# EAGLE library part AT1846S (library Auctus)
The RDA1846 is a highly integrated single-chip transceiver for Walkie Talkie applications.
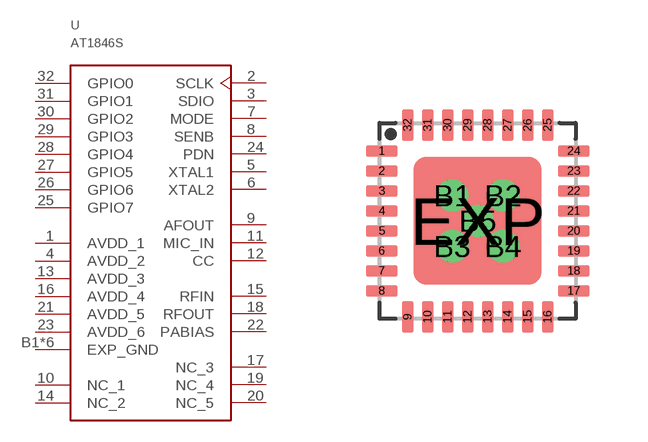
[diagram p0: symbol with the pads of QFN32; footprint QFN32]

Designator prefix U

## AT1846S  [QFN32]
1  AVDD_1  pwr
2  SCLK  in
3  SDIO
4  AVDD_2  pwr
5  XTAL1
6  XTAL2
7  MODE
8  SENB
9  AFOUT  out
10  NC_1  nc
11  MIC_IN  in
12  CC
13  AVDD_3  pwr
14  NC_2  nc
15  RFIN  in
16  AVDD_4  pwr
17  NC_3  nc
18  RFOUT  out
19  NC_4
20  NC_5
21  AVDD_5  pwr
22  PABIAS
23  AVDD_6  pwr
24  PDN
25  GPIO7
26  GPIO6
27  GPIO5
28  GPIO4
29  GPIO3
30  GPIO2
31  GPIO1
32  GPIO0
B1  EXP_GND
B2  EXP_GND
B3  EXP_GND
B4  EXP_GND
B5  EXP_GND
EXP  EXP_GND

## Footprint QFN32 (pad centres in mm)
QFN 32 5 x 5 mm Source: http://datasheets.maxim-ic.com/en/ds/MAX7042.pdf
smd 0.8 x 0.3: 1 -2.4,1.75; 2 -2.4,1.25; 3 -2.4,0.75; 4 -2.4,0.25; 5 -2.4,-0.25; 6 -2.4,-0.75; 7 -2.4,-1.25; 8 -2.4,-1.75; 17 2.4,-1.75; 18 2.4,-1.25; 19 2.4,-0.75; 20 2.4,-0.25; 21 2.4,0.25; 22 2.4,0.75; 23 2.4,1.25; 24 2.4,1.75
smd 0.3 x 0.8: 9 -1.75,-2.4; 10 -1.25,-2.4; 11 -0.75,-2.4; 12 -0.25,-2.4; 13 0.25,-2.4; 14 0.75,-2.4; 15 1.25,-2.4; 16 1.75,-2.4; 25 1.75,2.4; 26 1.25,2.4; 27 0.75,2.4; 28 0.25,2.4; 29 -0.25,2.4; 30 -0.75,2.4; 31 -1.25,2.4; 32 -1.75,2.4
drill 0.3: B1 -0.635,0.635; B2 0.635,0.635; B3 -0.635,-0.635; B4 0.635,-0.635; B5 0,0
smd 3.2 x 3.2: EXP 0,0